# Altium footprint library Soardra.PcbLib: 139 footprints (part 9 of 9)
Each footprint in its own frame and in the unit in brackets; x right, y up, seen from the top. Pads: shape width x height; smd on the part's side, far side on the other; paste and mask are expansions set on the pad; w line width, h text height; cw(c..) or ccw(c..) is an arc to the next point about the centre after c.
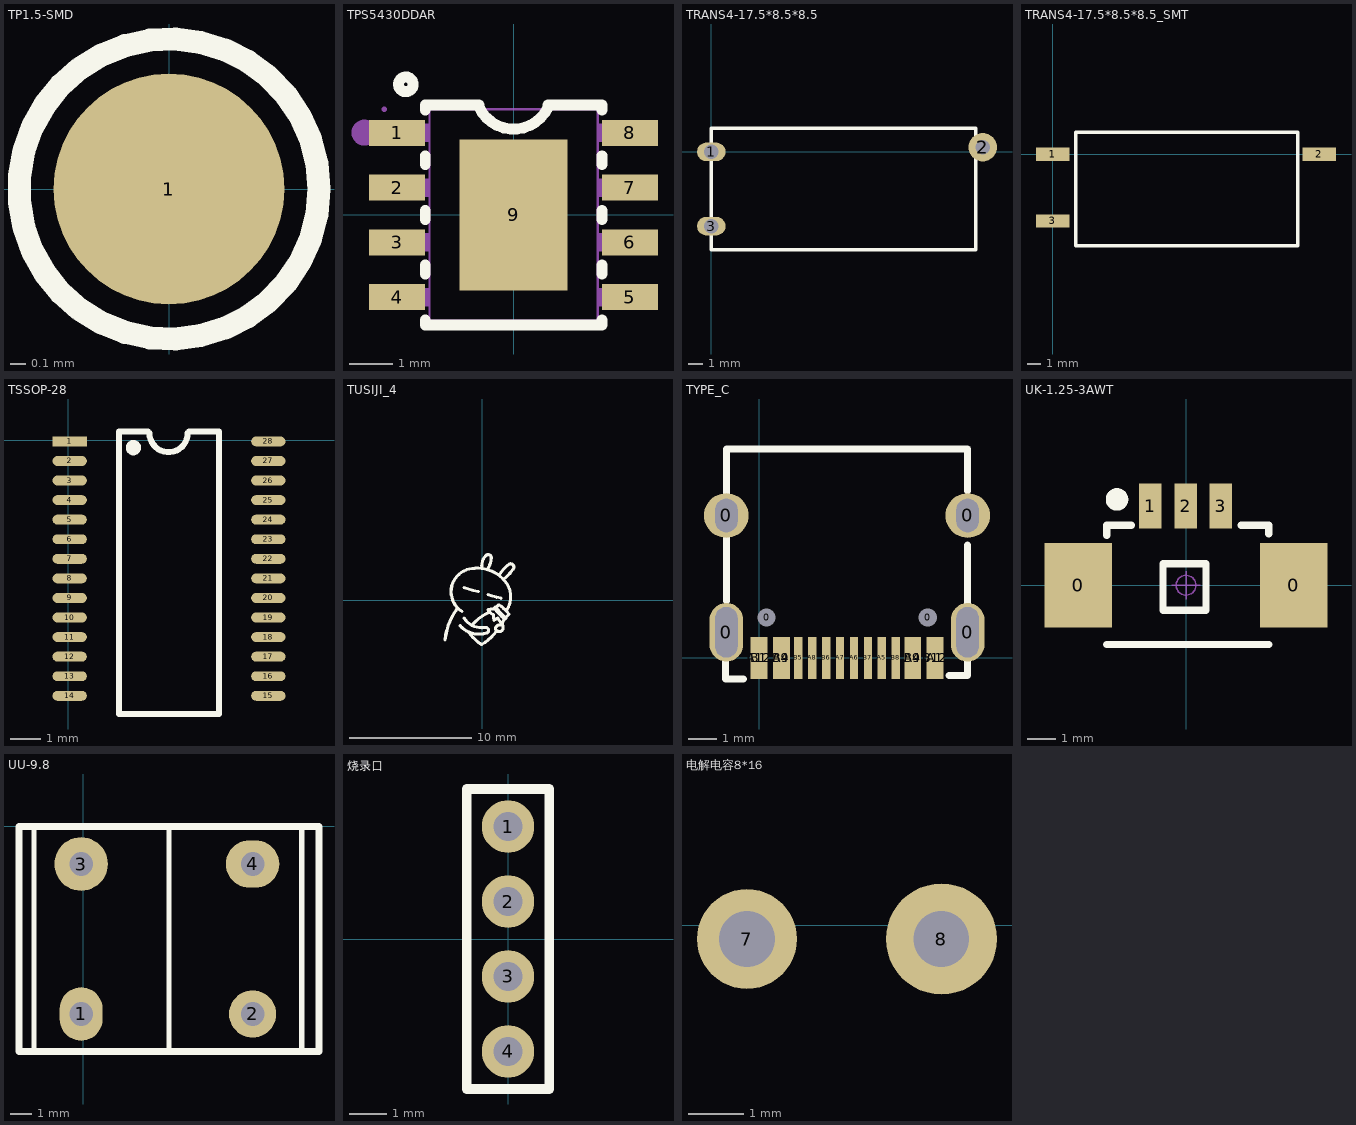
[diagram p8: the footprints below, top view; thin cyan lines are the x and y axes]

## TP1.5-SMD [mm]
height 0.5
pads (1):
  round 1.5 smd: 1(0,0)
Top Overlay:
  circle w0.15: c0,0 r0.976

## TPS5430DDAR [mm]
height 0.5
pads (9):
  rect 1.3x0.6 smd: 1(-2.7,1.905) 2(-2.7,0.635) 3(-2.7,-0.635) 4(-2.7,-1.905) 5(2.7,-1.905) 6(2.7,-0.635) 7(2.7,0.635) 8(2.7,1.905)
  rect 2.5x3.5 smd: 9(0,0)
Top Overlay:
  circle w0.254: c-2.5,3.03 r0.17
  lines w0.254: -2.05,-2.436 -2.05,-2.55 2.05,-2.55 2.05,-2.436 ; -2.05,-1.374 -2.05,-1.166 ; -2.05,-0.104 -2.05,0.104 ; -2.05,1.166 -2.05,1.374 ; -2.05,2.436 -2.05,2.55 -0.8,2.55 ; -0.8,2.5 ccw(c0,2.875) 0.8,2.5 ; 0.8,2.55 2.05,2.55 2.05,2.436 ; 2.05,-1.374 2.05,-1.166 ; 2.05,-0.104 2.05,0.104 ; 2.05,1.166 2.05,1.374
Mechanical 6:
  circle w0.3: c-3.46,1.91 r0.15
Mechanical 15:
  region: -1.207,-1.65 -1.207,1.65 1.206,1.65 1.206,-1.65
  region: -3,2.115 -2.165,2.115 -2.165,1.695 -3,1.695
  region: -2.175,2.115 -1.94,2.115 -1.94,1.695 -2.175,1.695
  region: -3,0.845 -2.165,0.845 -2.165,0.425 -3,0.425
  region: -2.175,0.845 -1.94,0.845 -1.94,0.425 -2.175,0.425
  region: -3,-0.425 -2.165,-0.425 -2.165,-0.845 -3,-0.845
  region: -2.175,-0.425 -1.94,-0.425 -1.94,-0.845 -2.175,-0.845
  region: -3,-1.695 -2.165,-1.695 -2.165,-2.115 -3,-2.115
  region: -2.175,-1.695 -1.94,-1.695 -1.94,-2.115 -2.175,-2.115
  region: 2.165,-1.695 3,-1.695 3,-2.115 2.165,-2.115
  region: 1.94,-1.695 2.175,-1.695 2.175,-2.115 1.94,-2.115
  region: 2.165,-0.425 3,-0.425 3,-0.845 2.165,-0.845
  region: 1.94,-0.425 2.175,-0.425 2.175,-0.845 1.94,-0.845
  region: 2.165,0.845 3,0.845 3,0.425 2.165,0.425
  region: 1.94,0.845 2.175,0.845 2.175,0.425 1.94,0.425
  region: 2.165,2.115 3,2.115 3,1.695 2.165,1.695
  region: 1.94,2.115 2.175,2.115 2.175,1.695 1.94,1.695
  region: -2.94,2.45 -2.94,2.475 -2.975,2.51 -3.025,2.51 -3.06,2.475 -3.06,2.45 -3.06,2.425 -3.025,2.39 -2.975,2.39 -2.94,2.425 -2.94,2.45
  lines w0.051: -1.95,-2.45 -1.95,2.45 1.95,2.45 1.95,-2.45 -1.95,-2.45

## TRANS4-17.5*8.5*8.5 [mm]
height 0.5
pads (3):
  oval 2x1.3 hole 1: 1(0,0) 3(0,-5.2)
  round 2 hole 1: 2(19,0.32)
Top Overlay:
  lines w0.254: 0,-6.85 18.5,-6.85 18.5,1.65 0,1.65 0,-6.85
3D body: height 9.5, standoff 0, extent 0,-6.85 18.5,1.65

## TRANS4-17.5*8.5*8.5_SMT [mm]
height 0.5
pads (3):
  rect 2.5x1 smd: 1(0,0) 2(20.025,0) 3(0,-5)
Top Overlay:
  lines w0.254: 1.742,-6.85 1.742,1.65 18.393,1.65 18.393,-6.85 1.742,-6.85
3D body: height 9.5, standoff 0, extent 1.708,-6.85 18.409,1.65

## TSSOP-28 [mm] "9.70x4.40x1.00 e=0.65（蒜米工坊）"
pads (28):
  rect 1.143x0.33 smd: 1(0.041,-0.046)
  oval 1.143x0.33 smd: 2(0.041,-0.696) 3(0.041,-1.346) 4(0.041,-1.996) 5(0.041,-2.646) 6(0.041,-3.296) 7(0.041,-3.946) 8(0.041,-4.596) 9(0.041,-5.246) 10(0.041,-5.896) 11(0.041,-6.546) 12(0.041,-7.196) 13(0.041,-7.846) 14(0.041,-8.496) 15(6.641,-8.496) 16(6.641,-7.846) 17(6.641,-7.196) 18(6.641,-6.546) 19(6.641,-5.896) 20(6.641,-5.246) 21(6.641,-4.596) 22(6.641,-3.946) 23(6.641,-3.296) 24(6.641,-2.646) 25(6.641,-1.996) 26(6.641,-1.346) 27(6.641,-0.696) 28(6.641,-0.046)
Top Overlay:
  circle w0.254: c2.159,-0.254 r0.127
  lines w0.2: 2.642,0.279 1.676,0.279 1.676,-9.1 5.006,-9.1 5.006,0.279 4.013,0.279 ; 2.692,0.229 ccw(c3.327,0.229) 3.962,0.229
3D body "TSSOP28.STEP": height 1.03, standoff -0.02, extent 0.049,-9.142 6.453,0.658

## TUSIJI_4 [mm]
Top Overlay:
  lines w0.254: -3.028,-3.248 cw(c2.108,-3.759) -2.057,-0.711 ; -1.829,-2.057 ccw(c-0.279,-0.737) 0.326,-2.68 ; -1.662,-0.92 cw(c-0.635,0.686) -0.584,2.591 ; -1.499,1.041 ccw(c1.067,7.874) -0.33,0.711 ; -1.473,-1.473 ccw(c-0.051,-0.559) 0.178,-2.234 ; -1.081,-2.634 ccw(c1.702,-0.737) -0.054,-3.611 ; -0.829,-2.018 cw(c2.411,-4.926) 0.608,-0.964 ; -0.584,2.614 cw(c-0.432,-0.356) 2.007,1.346 ; -0.028,-3.596 ccw(c-1.694,-0.572) 1.143,-2.54 ; -0.019,2.617 cw(c1.168,2.819) 0.279,3.632 ; 0.205,-2.242 cw(c0.279,-2.464) 0.33,-2.692 ; 0.29,3.622 cw(c0.483,3.454) 0.738,3.454 ; 0.406,2.489 ccw(c-0.991,3.505) 0.736,3.455 ; 0.457,-0.762 ccw(c1.422,-0.229) 0.867,-1.181 ; 0.457,0.457 ccw(c2.997,7.442) 1.525,0.157 ; 0.489,-0.771 cw(c0.914,-3.023) 1.067,-0.737 ; 0.914,-1.194 ccw(c3.023,-1.194) 0.958,-1.622 ; 0.958,-1.642 cw(c1.676,-2.591) 1.285,-1.467 ; 1.041,-0.686 1.346,-0.381 ; 1.127,-2.172 cw(c1.448,-2.413) 1.676,-2.083 ; 1.143,-2.159 ccw(c1.321,-2.311) 1.297,-2.544 ; 1.295,-1.473 ccw(c3.404,-0.483) 1.635,-1.999 ; 1.321,-2.565 ccw(c1.372,-2.235) 1.67,-2.086 ; 1.362,-0.388 cw(c0.127,-2.489) 2.159,-1.143 ; 1.383,2.05 cw(c4.064,0.406) 2.21,2.946 ; 1.632,-1.951 cw(c4.521,-2.718) 1.803,-1.473 ; 1.702,1.702 ccw(c0.305,3.861) 2.494,2.512 ; 1.854,-1.473 2.159,-1.168 ; 2.002,1.353 cw(c0.33,0.279) 2.007,-0.787 ; 2.211,2.943 cw(c2.311,2.692) 2.515,2.515
  lines w0.381: 1.067,-0.635 ccw(c3.962,1.295) 1.854,-1.473

## TYPE_C [mm]
height 1.14
pads (22):
  oval 1.2x2.1 hole 1.8 slot 0.8 at 0 deg: 0(-1.171,0.915) 0(7.469,0.915)
  round 1.6 hole 1.2 slot 0.8 at 0 deg: 0(-1.171,5.095) 0(7.469,5.095)
  round 0.457 hole 0.65: 0(0.269,1.445) 0(6.039,1.445)
  rect 0.6x1.5 smd: A1(6.3,0) A4(5.5,0) A9(0.8,0) A12(0,0) B1(0,0) B4(0.8,0) B9(5.5,0) B12(6.3,0)
  rect 0.3x1.5 smd: A5(4.4,0) A6(3.4,0) A7(2.9,0) A8(1.9,0) B5(1.4,0) B6(2.4,0) B7(3.9,0) B8(4.9,0)
Top Overlay:
  lines w0.254: -1.194,0.127 -1.194,-0.612 -1.194,-0.762 -0.559,-0.762 ; -1.171,2.032 -1.171,4.087 -1.171,7.479 7.456,7.479 7.469,7.466 7.469,5.969 ; 6.807,-0.635 7.469,-0.635 7.469,2.032 7.469,4.037
3D body "User Library-CON-24-TYPEC-L7R9-24SM-4TH.STEP": height 3.16, standoff -0.6, extent -1.337,-0.475 7.603,7.625

## UK-1.25-3AWT [mm]
height 15
pads (5):
  rect 2.4x3 smd: 0(-3.825,0) 0(3.825,0)
  rect 0.8x1.6 smd: 1(-1.264,2.811) 2(-0.014,2.811) 3(1.236,2.811)
Top Overlay:
  circle w0.4: c-2.449,3.048 r0.2
  lines w0.254: -2.814,-2.1 2.936,-2.1 ; -2.814,1.778 -2.814,2.134 -1.941,2.134 ; 1.953,2.134 2.936,2.134 2.936,1.814 ; -0.814,-0.889 -0.814,0.762 0.71,0.762 0.71,-0.889 -0.814,-0.889
Mechanical 15:
  circle w0.05: c0,0 r0.35
  lines w0.05: -0.5,0 0.5,0 ; 0,-0.5 0,0.5
3D body "MOLEX1.25-WS-3P.STEP": height 3.4, standoff 0, extent -4.45,-2.1 4.45,3.09

## UU-9.8 [mm]
pads (4):
  oval 2x2.5 hole 1.1: 1(-0.1,-8.75)
  round 2.2 hole 1.1: 2(7.9,-8.75)
  round 2.5 hole 1.1: 3(-0.1,-1.75)
  oval 2.5x2.2 hole 1.1: 4(7.9,-1.75)
Top Overlay:
  lines w0.254: -2.3,-10.45 -2.3,-0.05 ; 4,-10.5 4,0 ; 10.2,-10.5 10.2,0
  lines w0.305: -3,-10.5 -3,0 11,0 11,-10.5 -3,-10.5

## 烧录口 [mm]
height 15
pads (4):
  round 1.4 hole 0.762: 1(0,3) 2(0,1) 3(0,-1) 4(0,-3)
Top Overlay:
  lines w0.254: -1.1,-4 -1.1,4 1.1,4 1.1,-4 -1.1,-4

## 电解电容8*16 [mm]
pads (2):
  round 1.8 hole 1: 7(2.352,-0.246)
  round 2 hole 1: 8(5.852,-0.246)